# Altium footprint library RES HOLE.PcbLib: 1 footprints
Each footprint in its own frame and in the unit in brackets; x right, y up, seen from the top. Pads: shape width x height; smd on the part's side, far side on the other; paste and mask are expansions set on the pad; w line width, h text height; cw(c..) or ccw(c..) is an arc to the next point about the centre after c.
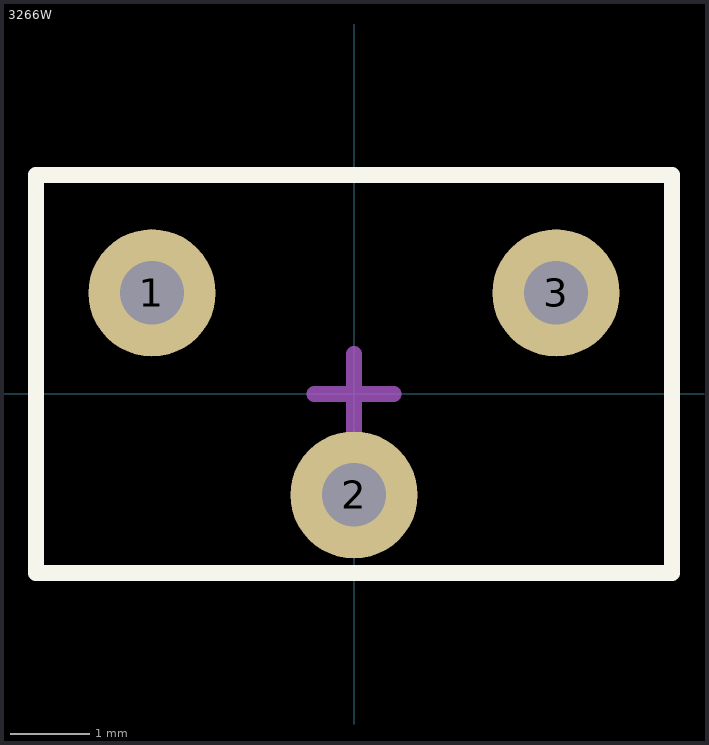
[diagram p0: the footprint, top view; thin cyan lines are the x and y axes]

## 3266W [mm]
pads (3):
  round 1.6 hole 0.8: 1(-2.54,1.27) 2(0,-1.27) 3(2.54,1.27)
Top Overlay:
  lines w0.2: -4,-2.25 -4,2.75 4,2.75 4,-2.25 -4,-2.25
Assembly:
  lines w0.2: -4,-2.25 -4,2.75 4,2.75 4,-2.25 -4,-2.25
Mechanical 15:
  lines w0.2: -0.5,0 0.5,0 ; 0,-0.5 0,0.5 ; -4,-2.25 -4,2.75 4,2.75 4,-2.25 0,-2.25 -4,-2.25
3D body "3266W.step": height 9, standoff -5, extent -3.5,-1.52 3.5,2.48